# Altium schematic symbol library ISSI SRAM ASynchronous SRAM High Speed Low Power.SchLib: 413 symbols (part 1 of 21)
Pins are listed as number, name and electrical type; pins without a type are passive.

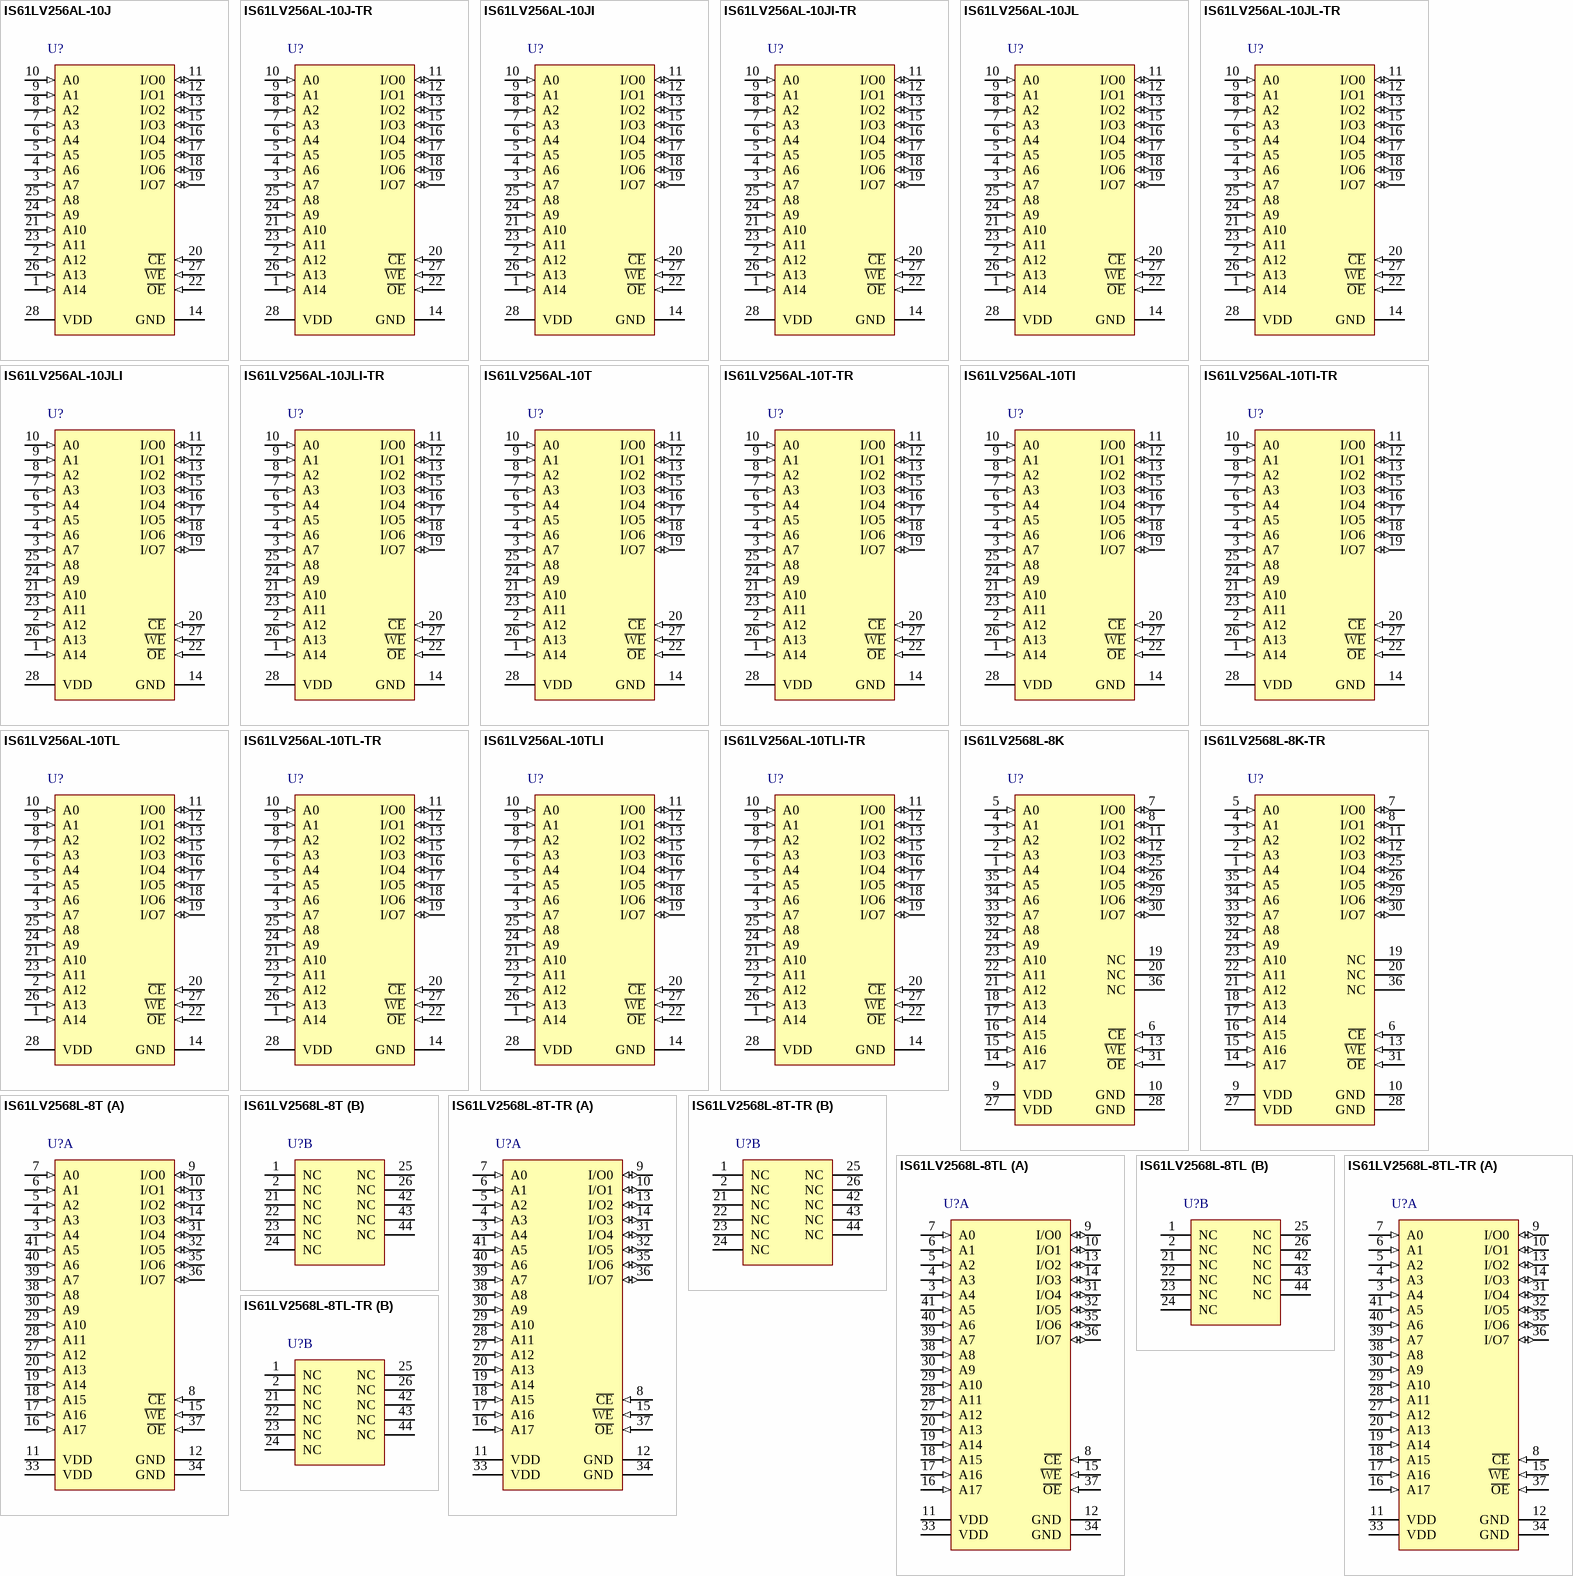
[diagram p0: symbols IS61LV256AL-10J to IS61LV2568L-8TL-TR]

## IS61LV256AL-10J
designator U?
256 K Low Voltage CMOS SRAM, 32 K x 8, 0 to 70 degC, 28-Pin SOJ (SOJ-28); Manufacturer: Integrated Silicon Solution Inc (ISSI); PartNumber: IS61LV256AL-10J; Density: 256K; Organization: 32K x 8; Packing: Tray / Tube; Speed (ns): 10; DatasheetVersion: Rev. C; PackageVersion: Rev. C, 07/2006; PackageReference: SOJ-28; PackageDescription: 28-Pin 300 mil SOJ, Body 18.12 x 7.585 mm, Pitch 1.27 mm; Mounting Technology: Surface Mount; ComponentLink1Description: Manufacturer URL; ComponentLink1URL: http://www.issi.com/US/index.shtml; ComponentLink2Description: Datasheet; ComponentLink2URL: http://www.issi.com/WW/pdf/61LV256AL.pdf; ComponentLink3Description: Package Specification; ComponentLink3URL: http://www.issi.com/WW/pdf/61C256AL.pdf
footprint ISSI-SOJ-28_A_N (SOJ, 28-Leads, Body 18.54x7.75mm, Pitch 1.27mm, IPC Medium Density)
pins: 1 A14 (in) "Address Inputs", 2 A12 (in) "Address Inputs", 3 A7 (in) "Address Inputs", 4 A6 (in) "Address Inputs", 5 A5 (in) "Address Inputs", 6 A4 (in) "Address Inputs", 7 A3 (in) "Address Inputs", 8 A2 (in) "Address Inputs", 9 A1 (in) "Address Inputs", 10 A0 (in) "Address Inputs", 11 I/O0 (io) "Input/Output", 12 I/O1 (io) "Input/Output", 13 I/O2 (io) "Input/Output", 14 GND (power) "Ground", 15 I/O3 (io) "Input/Output", 16 I/O4 (io) "Input/Output", 17 I/O5 (io) "Input/Output", 18 I/O6 (io) "Input/Output", 19 I/O7 (io) "Input/Output", 20 ~{CE} (in) "Chip Enable Input", 21 A10 (in) "Address Inputs", 22 ~{OE} (in) "Output Enable Input", 23 A11 (in) "Address Inputs", 24 A9 (in) "Address Inputs", 25 A8 (in) "Address Inputs", 26 A13 (in) "Address Inputs", 27 ~{WE} (in) "Write Enable Input", 28 VDD (power) "Power"

## IS61LV256AL-10J-TR
designator U?
256 K Low Voltage CMOS SRAM, 32 K x 8, 0 to 70 degC, 28-Pin SOJ (SOJ-28_A); Manufacturer: Integrated Silicon Solution Inc (ISSI); PartNumber: IS61LV256AL-10J-TR; Density: 256K; Organization: 32K x 8; Packing: Tape & Reel; Speed (ns): 10; DatasheetVersion: Rev. C; PackageVersion: Rev. C, 07/2006; PackageReference: SOJ-28; PackageDescription: 28-Pin 300 mil SOJ, Body 18.12 x 7.585 mm, Pitch 1.27 mm; Mounting Technology: Surface Mount; ComponentLink1Description: Manufacturer URL; ComponentLink1URL: http://www.issi.com/US/index.shtml; ComponentLink2Description: Datasheet; ComponentLink2URL: http://www.issi.com/WW/pdf/61LV256AL.pdf; ComponentLink3Description: Package Specification; ComponentLink3URL: http://www.issi.com/WW/pdf/61C256AL.pdf
footprint ISSI-SOJ-28_A_N (SOJ, 28-Leads, Body 18.54x7.75mm, Pitch 1.27mm, IPC Medium Density)
pins: 1 A14 (in) "Address Inputs", 2 A12 (in) "Address Inputs", 3 A7 (in) "Address Inputs", 4 A6 (in) "Address Inputs", 5 A5 (in) "Address Inputs", 6 A4 (in) "Address Inputs", 7 A3 (in) "Address Inputs", 8 A2 (in) "Address Inputs", 9 A1 (in) "Address Inputs", 10 A0 (in) "Address Inputs", 11 I/O0 (io) "Input/Output", 12 I/O1 (io) "Input/Output", 13 I/O2 (io) "Input/Output", 14 GND (power) "Ground", 15 I/O3 (io) "Input/Output", 16 I/O4 (io) "Input/Output", 17 I/O5 (io) "Input/Output", 18 I/O6 (io) "Input/Output", 19 I/O7 (io) "Input/Output", 20 ~{CE} (in) "Chip Enable Input", 21 A10 (in) "Address Inputs", 22 ~{OE} (in) "Output Enable Input", 23 A11 (in) "Address Inputs", 24 A9 (in) "Address Inputs", 25 A8 (in) "Address Inputs", 26 A13 (in) "Address Inputs", 27 ~{WE} (in) "Write Enable Input", 28 VDD (power) "Power"

## IS61LV256AL-10JI
designator U?
256 K Low Voltage CMOS SRAM, 32 K x 8, -40 to 85 degC, 28-Pin SOJ (SOJ-28); Manufacturer: Integrated Silicon Solution Inc (ISSI); PartNumber: IS61LV256AL-10JI; Density: 256K; Organization: 32K x 8; Packing: Tray / Tube; Speed (ns): 10; DatasheetVersion: Rev. C; PackageVersion: Rev. C, 07/2006; PackageReference: SOJ-28; PackageDescription: 28-Pin 300 mil SOJ, Body 18.12 x 7.585 mm, Pitch 1.27 mm; Mounting Technology: Surface Mount; ComponentLink1Description: Manufacturer URL; ComponentLink1URL: http://www.issi.com/US/index.shtml; ComponentLink2Description: Datasheet; ComponentLink2URL: http://www.issi.com/WW/pdf/61LV256AL.pdf; ComponentLink3Description: Package Specification; ComponentLink3URL: http://www.issi.com/WW/pdf/61C256AL.pdf
footprint ISSI-SOJ-28_A_N (SOJ, 28-Leads, Body 18.54x7.75mm, Pitch 1.27mm, IPC Medium Density)
pins: 1 A14 (in) "Address Inputs", 2 A12 (in) "Address Inputs", 3 A7 (in) "Address Inputs", 4 A6 (in) "Address Inputs", 5 A5 (in) "Address Inputs", 6 A4 (in) "Address Inputs", 7 A3 (in) "Address Inputs", 8 A2 (in) "Address Inputs", 9 A1 (in) "Address Inputs", 10 A0 (in) "Address Inputs", 11 I/O0 (io) "Input/Output", 12 I/O1 (io) "Input/Output", 13 I/O2 (io) "Input/Output", 14 GND (power) "Ground", 15 I/O3 (io) "Input/Output", 16 I/O4 (io) "Input/Output", 17 I/O5 (io) "Input/Output", 18 I/O6 (io) "Input/Output", 19 I/O7 (io) "Input/Output", 20 ~{CE} (in) "Chip Enable Input", 21 A10 (in) "Address Inputs", 22 ~{OE} (in) "Output Enable Input", 23 A11 (in) "Address Inputs", 24 A9 (in) "Address Inputs", 25 A8 (in) "Address Inputs", 26 A13 (in) "Address Inputs", 27 ~{WE} (in) "Write Enable Input", 28 VDD (power) "Power"

## IS61LV256AL-10JI-TR
designator U?
256 K Low Voltage CMOS SRAM, 32 K x 8, -40 to 85 degC, 28-Pin SOJ (SOJ-28_A); Manufacturer: Integrated Silicon Solution Inc (ISSI); PartNumber: IS61LV256AL-10JI-TR; Density: 256K; Organization: 32K x 8; Packing: Tape & Reel; Speed (ns): 10; DatasheetVersion: Rev. C; PackageVersion: Rev. C, 07/2006; PackageReference: SOJ-28; PackageDescription: 28-Pin 300 mil SOJ, Body 18.12 x 7.585 mm, Pitch 1.27 mm; Mounting Technology: Surface Mount; ComponentLink1Description: Manufacturer URL; ComponentLink1URL: http://www.issi.com/US/index.shtml; ComponentLink2Description: Datasheet; ComponentLink2URL: http://www.issi.com/WW/pdf/61LV256AL.pdf; ComponentLink3Description: Package Specification; ComponentLink3URL: http://www.issi.com/WW/pdf/61C256AL.pdf
footprint ISSI-SOJ-28_A_N (SOJ, 28-Leads, Body 18.54x7.75mm, Pitch 1.27mm, IPC Medium Density)
pins: 1 A14 (in) "Address Inputs", 2 A12 (in) "Address Inputs", 3 A7 (in) "Address Inputs", 4 A6 (in) "Address Inputs", 5 A5 (in) "Address Inputs", 6 A4 (in) "Address Inputs", 7 A3 (in) "Address Inputs", 8 A2 (in) "Address Inputs", 9 A1 (in) "Address Inputs", 10 A0 (in) "Address Inputs", 11 I/O0 (io) "Input/Output", 12 I/O1 (io) "Input/Output", 13 I/O2 (io) "Input/Output", 14 GND (power) "Ground", 15 I/O3 (io) "Input/Output", 16 I/O4 (io) "Input/Output", 17 I/O5 (io) "Input/Output", 18 I/O6 (io) "Input/Output", 19 I/O7 (io) "Input/Output", 20 ~{CE} (in) "Chip Enable Input", 21 A10 (in) "Address Inputs", 22 ~{OE} (in) "Output Enable Input", 23 A11 (in) "Address Inputs", 24 A9 (in) "Address Inputs", 25 A8 (in) "Address Inputs", 26 A13 (in) "Address Inputs", 27 ~{WE} (in) "Write Enable Input", 28 VDD (power) "Power"

## IS61LV256AL-10JL
designator U?
256 K Low Voltage CMOS SRAM, 32 K x 8, 0 to 70 degC, 28-Pin SOJ (SOJ-28), Pb-Free; Manufacturer: Integrated Silicon Solution Inc (ISSI); PartNumber: IS61LV256AL-10JL; Density: 256K; Organization: 32K x 8; Packing: Tray / Tube; Speed (ns): 10; DatasheetVersion: Rev. C; PackageVersion: Rev. C, 07/2006; PackageReference: SOJ-28; PackageDescription: 28-Pin 300 mil SOJ, Body 18.12 x 7.585 mm, Pitch 1.27 mm; RoHS: Pb-Free; Mounting Technology: Surface Mount; ComponentLink1Description: Manufacturer URL; ComponentLink1URL: http://www.issi.com/US/index.shtml; ComponentLink2Description: Datasheet; ComponentLink2URL: http://www.issi.com/WW/pdf/61LV256AL.pdf; ComponentLink3Description: Package Specification; ComponentLink3URL: http://www.issi.com/WW/pdf/61C256AL.pdf
footprint ISSI-SOJ-28_A_N (SOJ, 28-Leads, Body 18.54x7.75mm, Pitch 1.27mm, IPC Medium Density)
pins: 1 A14 (in) "Address Inputs", 2 A12 (in) "Address Inputs", 3 A7 (in) "Address Inputs", 4 A6 (in) "Address Inputs", 5 A5 (in) "Address Inputs", 6 A4 (in) "Address Inputs", 7 A3 (in) "Address Inputs", 8 A2 (in) "Address Inputs", 9 A1 (in) "Address Inputs", 10 A0 (in) "Address Inputs", 11 I/O0 (io) "Input/Output", 12 I/O1 (io) "Input/Output", 13 I/O2 (io) "Input/Output", 14 GND (power) "Ground", 15 I/O3 (io) "Input/Output", 16 I/O4 (io) "Input/Output", 17 I/O5 (io) "Input/Output", 18 I/O6 (io) "Input/Output", 19 I/O7 (io) "Input/Output", 20 ~{CE} (in) "Chip Enable Input", 21 A10 (in) "Address Inputs", 22 ~{OE} (in) "Output Enable Input", 23 A11 (in) "Address Inputs", 24 A9 (in) "Address Inputs", 25 A8 (in) "Address Inputs", 26 A13 (in) "Address Inputs", 27 ~{WE} (in) "Write Enable Input", 28 VDD (power) "Power"

## IS61LV256AL-10JL-TR
designator U?
256 K Low Voltage CMOS SRAM, 32 K x 8, 0 to 70 degC, 28-Pin SOJ (SOJ-28_A), Pb-Free; Manufacturer: Integrated Silicon Solution Inc (ISSI); PartNumber: IS61LV256AL-10JL-TR; Density: 256K; Organization: 32K x 8; Packing: Tape & Reel; Speed (ns): 10; DatasheetVersion: Rev. C; PackageVersion: Rev. C, 07/2006; PackageReference: SOJ-28; PackageDescription: 28-Pin 300 mil SOJ, Body 18.12 x 7.585 mm, Pitch 1.27 mm; RoHS: Pb-Free; Mounting Technology: Surface Mount; ComponentLink1Description: Manufacturer URL; ComponentLink1URL: http://www.issi.com/US/index.shtml; ComponentLink2Description: Datasheet; ComponentLink2URL: http://www.issi.com/WW/pdf/61LV256AL.pdf; ComponentLink3Description: Package Specification; ComponentLink3URL: http://www.issi.com/WW/pdf/61C256AL.pdf
footprint ISSI-SOJ-28_A_N (SOJ, 28-Leads, Body 18.54x7.75mm, Pitch 1.27mm, IPC Medium Density)
pins: 1 A14 (in) "Address Inputs", 2 A12 (in) "Address Inputs", 3 A7 (in) "Address Inputs", 4 A6 (in) "Address Inputs", 5 A5 (in) "Address Inputs", 6 A4 (in) "Address Inputs", 7 A3 (in) "Address Inputs", 8 A2 (in) "Address Inputs", 9 A1 (in) "Address Inputs", 10 A0 (in) "Address Inputs", 11 I/O0 (io) "Input/Output", 12 I/O1 (io) "Input/Output", 13 I/O2 (io) "Input/Output", 14 GND (power) "Ground", 15 I/O3 (io) "Input/Output", 16 I/O4 (io) "Input/Output", 17 I/O5 (io) "Input/Output", 18 I/O6 (io) "Input/Output", 19 I/O7 (io) "Input/Output", 20 ~{CE} (in) "Chip Enable Input", 21 A10 (in) "Address Inputs", 22 ~{OE} (in) "Output Enable Input", 23 A11 (in) "Address Inputs", 24 A9 (in) "Address Inputs", 25 A8 (in) "Address Inputs", 26 A13 (in) "Address Inputs", 27 ~{WE} (in) "Write Enable Input", 28 VDD (power) "Power"

## IS61LV256AL-10JLI
designator U?
256 K Low Voltage CMOS SRAM, 32 K x 8, -40 to 85 degC, 28-Pin SOJ (SOJ-28), Pb-Free; Manufacturer: Integrated Silicon Solution Inc (ISSI); PartNumber: IS61LV256AL-10JLI; Density: 256K; Organization: 32K x 8; Packing: Tray / Tube; Speed (ns): 10; DatasheetVersion: Rev. C; PackageVersion: Rev. C, 07/2006; PackageReference: SOJ-28; PackageDescription: 28-Pin 300 mil SOJ, Body 18.12 x 7.585 mm, Pitch 1.27 mm; Supplier 1: Digi-Key; Supplier Part Number 1: 706-1036-ND; Supplier 2: Newark; Supplier Part Number 2: 43M5205; Supplier 3: Mouser; Supplier Part Number 3: 870-IS61LV256AL10JLI; RoHS: Pb-Free; Mounting Technology: Surface Mount; ComponentLink1Description: Manufacturer URL; ComponentLink1URL: http://www.issi.com/US/index.shtml; ComponentLink2Description: Datasheet; ComponentLink2URL: http://www.issi.com/WW/pdf/61LV256AL.pdf; ComponentLink3Description: Package Specification; ComponentLink3URL: http://www.issi.com/WW/pdf/61C256AL.pdf
footprint ISSI-SOJ-28_A_N (SOJ, 28-Leads, Body 18.54x7.75mm, Pitch 1.27mm, IPC Medium Density)
pins: 1 A14 (in) "Address Inputs", 2 A12 (in) "Address Inputs", 3 A7 (in) "Address Inputs", 4 A6 (in) "Address Inputs", 5 A5 (in) "Address Inputs", 6 A4 (in) "Address Inputs", 7 A3 (in) "Address Inputs", 8 A2 (in) "Address Inputs", 9 A1 (in) "Address Inputs", 10 A0 (in) "Address Inputs", 11 I/O0 (io) "Input/Output", 12 I/O1 (io) "Input/Output", 13 I/O2 (io) "Input/Output", 14 GND (power) "Ground", 15 I/O3 (io) "Input/Output", 16 I/O4 (io) "Input/Output", 17 I/O5 (io) "Input/Output", 18 I/O6 (io) "Input/Output", 19 I/O7 (io) "Input/Output", 20 ~{CE} (in) "Chip Enable Input", 21 A10 (in) "Address Inputs", 22 ~{OE} (in) "Output Enable Input", 23 A11 (in) "Address Inputs", 24 A9 (in) "Address Inputs", 25 A8 (in) "Address Inputs", 26 A13 (in) "Address Inputs", 27 ~{WE} (in) "Write Enable Input", 28 VDD (power) "Power"

## IS61LV256AL-10JLI-TR
designator U?
256 K Low Voltage CMOS SRAM, 32 K x 8, -40 to 85 degC, 28-Pin SOJ (SOJ-28_A), Pb-Free; Manufacturer: Integrated Silicon Solution Inc (ISSI); PartNumber: IS61LV256AL-10JLI-TR; Density: 256K; Organization: 32K x 8; Packing: Tape & Reel; Speed (ns): 10; DatasheetVersion: Rev. C; PackageVersion: Rev. C, 07/2006; PackageReference: SOJ-28; PackageDescription: 28-Pin 300 mil SOJ, Body 18.12 x 7.585 mm, Pitch 1.27 mm; Supplier 1: Digi-Key; Supplier Part Number 1: IS61LV256AL-10JLI-TR-ND; Supplier 2: Mouser; Supplier Part Number 2: 870-61LV256AL10JLITR; RoHS: Pb-Free; Mounting Technology: Surface Mount; ComponentLink1Description: Manufacturer URL; ComponentLink1URL: http://www.issi.com/US/index.shtml; ComponentLink2Description: Datasheet; ComponentLink2URL: http://www.issi.com/WW/pdf/61LV256AL.pdf; ComponentLink3Description: Package Specification; ComponentLink3URL: http://www.issi.com/WW/pdf/61C256AL.pdf
footprint ISSI-SOJ-28_A_N (SOJ, 28-Leads, Body 18.54x7.75mm, Pitch 1.27mm, IPC Medium Density)
pins: 1 A14 (in) "Address Inputs", 2 A12 (in) "Address Inputs", 3 A7 (in) "Address Inputs", 4 A6 (in) "Address Inputs", 5 A5 (in) "Address Inputs", 6 A4 (in) "Address Inputs", 7 A3 (in) "Address Inputs", 8 A2 (in) "Address Inputs", 9 A1 (in) "Address Inputs", 10 A0 (in) "Address Inputs", 11 I/O0 (io) "Input/Output", 12 I/O1 (io) "Input/Output", 13 I/O2 (io) "Input/Output", 14 GND (power) "Ground", 15 I/O3 (io) "Input/Output", 16 I/O4 (io) "Input/Output", 17 I/O5 (io) "Input/Output", 18 I/O6 (io) "Input/Output", 19 I/O7 (io) "Input/Output", 20 ~{CE} (in) "Chip Enable Input", 21 A10 (in) "Address Inputs", 22 ~{OE} (in) "Output Enable Input", 23 A11 (in) "Address Inputs", 24 A9 (in) "Address Inputs", 25 A8 (in) "Address Inputs", 26 A13 (in) "Address Inputs", 27 ~{WE} (in) "Write Enable Input", 28 VDD (power) "Power"

## IS61LV256AL-10T
designator U?
256 K Low Voltage CMOS SRAM, 32 K x 8, 0 to 70 degC, 28-Pin SOP (TSOP-1-28); Manufacturer: Integrated Silicon Solution Inc (ISSI); PartNumber: IS61LV256AL-10T; Density: 256K; Organization: 32K x 8; Packing: Tray / Tube; Speed (ns): 10; DatasheetVersion: Rev. C; PackageVersion: Rev. F, 09/2009; PackageReference: TSOP-1-28; PackageDescription: 28-Pin 8 x 13.4 mm TSOP-1, Pitch 0.55 mm; Mounting Technology: Surface Mount; Code_JEDEC: MO- 183; ComponentLink1Description: Manufacturer URL; ComponentLink1URL: http://www.issi.com/US/index.shtml; ComponentLink2Description: Datasheet; ComponentLink2URL: http://www.issi.com/WW/pdf/61LV256AL.pdf; ComponentLink3Description: Package Specification; ComponentLink3URL: http://www.issi.com/WW/pdf/62-65C256AL.pdf
footprint ISSI-TSOP-1-28-8000X13400DE_N (SOP, 28-Leads, Body 11.9x8.1mm, Pitch 0.55mm, IPC Medium Density)
pins: 1 A14 (in) "Address Input", 2 A12 (in) "Address Input", 3 A7 (in) "Address Input", 4 A6 (in) "Address Input", 5 A5 (in) "Address Input", 6 A4 (in) "Address Input", 7 A3 (in) "Address Input", 8 A2 (in) "Address Input", 9 A1 (in) "Address Input", 10 A0 (in) "Address Input", 11 I/O0 (io) "Input/Output", 12 I/O1 (io) "Input/Output", 13 I/O2 (io) "Input/Output", 14 GND (power) "Ground", 15 I/O3 (io) "Input/Output", 16 I/O4 (io) "Input/Output", 17 I/O5 (io) "Input/Output", 18 I/O6 (io) "Input/Output", 19 I/O7 (io) "Input/Output", 20 ~{CE} (in) "Chip Enable Input", 21 A10 (in) "Address Input", 22 ~{OE} (in) "Output Enable Input", 23 A11 (in) "Address Input", 24 A9 (in) "Address Input", 25 A8 (in) "Address Input", 26 A13 (in) "Address Input", 27 ~{WE} (in) "Write Enable Input", 28 VDD (power) "Power"

## IS61LV256AL-10T-TR
designator U?
256 K Low Voltage CMOS SRAM, 32 K x 8, 0 to 70 degC, 28-Pin SOP (TSOP-1-28); Manufacturer: Integrated Silicon Solution Inc (ISSI); PartNumber: IS61LV256AL-10T-TR; Density: 256K; Organization: 32K x 8; Packing: Tape & Reel; Speed (ns): 10; DatasheetVersion: Rev. C; PackageVersion: Rev. F, 09/2009; PackageReference: TSOP-1-28; PackageDescription: 28-Pin 8 x 13.4 mm TSOP-1, Pitch 0.55 mm; Mounting Technology: Surface Mount; Code_JEDEC: MO- 183; ComponentLink1Description: Manufacturer URL; ComponentLink1URL: http://www.issi.com/US/index.shtml; ComponentLink2Description: Datasheet; ComponentLink2URL: http://www.issi.com/WW/pdf/61LV256AL.pdf; ComponentLink3Description: Package Specification; ComponentLink3URL: http://www.issi.com/WW/pdf/62-65C256AL.pdf
footprint ISSI-TSOP-1-28-8000X13400DE_N (SOP, 28-Leads, Body 11.9x8.1mm, Pitch 0.55mm, IPC Medium Density)
pins: 1 A14 (in) "Address Input", 2 A12 (in) "Address Input", 3 A7 (in) "Address Input", 4 A6 (in) "Address Input", 5 A5 (in) "Address Input", 6 A4 (in) "Address Input", 7 A3 (in) "Address Input", 8 A2 (in) "Address Input", 9 A1 (in) "Address Input", 10 A0 (in) "Address Input", 11 I/O0 (io) "Input/Output", 12 I/O1 (io) "Input/Output", 13 I/O2 (io) "Input/Output", 14 GND (power) "Ground", 15 I/O3 (io) "Input/Output", 16 I/O4 (io) "Input/Output", 17 I/O5 (io) "Input/Output", 18 I/O6 (io) "Input/Output", 19 I/O7 (io) "Input/Output", 20 ~{CE} (in) "Chip Enable Input", 21 A10 (in) "Address Input", 22 ~{OE} (in) "Output Enable Input", 23 A11 (in) "Address Input", 24 A9 (in) "Address Input", 25 A8 (in) "Address Input", 26 A13 (in) "Address Input", 27 ~{WE} (in) "Write Enable Input", 28 VDD (power) "Power"

## IS61LV256AL-10TI
designator U?
256 K Low Voltage CMOS SRAM, 32 K x 8, -40 to 85 degC, 28-Pin SOP (TSOP-1-28); Manufacturer: Integrated Silicon Solution Inc (ISSI); PartNumber: IS61LV256AL-10TI; Density: 256K; Organization: 32K x 8; Packing: Tray / Tube; Speed (ns): 10; DatasheetVersion: Rev. C; PackageVersion: Rev. F, 09/2009; PackageReference: TSOP-1-28; PackageDescription: 28-Pin 8 x 13.4 mm TSOP-1, Pitch 0.55 mm; Mounting Technology: Surface Mount; Code_JEDEC: MO- 183; ComponentLink1Description: Manufacturer URL; ComponentLink1URL: http://www.issi.com/US/index.shtml; ComponentLink2Description: Datasheet; ComponentLink2URL: http://www.issi.com/WW/pdf/61LV256AL.pdf; ComponentLink3Description: Package Specification; ComponentLink3URL: http://www.issi.com/WW/pdf/62-65C256AL.pdf
footprint ISSI-TSOP-1-28-8000X13400DE_N (SOP, 28-Leads, Body 11.9x8.1mm, Pitch 0.55mm, IPC Medium Density)
pins: 1 A14 (in) "Address Input", 2 A12 (in) "Address Input", 3 A7 (in) "Address Input", 4 A6 (in) "Address Input", 5 A5 (in) "Address Input", 6 A4 (in) "Address Input", 7 A3 (in) "Address Input", 8 A2 (in) "Address Input", 9 A1 (in) "Address Input", 10 A0 (in) "Address Input", 11 I/O0 (io) "Input/Output", 12 I/O1 (io) "Input/Output", 13 I/O2 (io) "Input/Output", 14 GND (power) "Ground", 15 I/O3 (io) "Input/Output", 16 I/O4 (io) "Input/Output", 17 I/O5 (io) "Input/Output", 18 I/O6 (io) "Input/Output", 19 I/O7 (io) "Input/Output", 20 ~{CE} (in) "Chip Enable Input", 21 A10 (in) "Address Input", 22 ~{OE} (in) "Output Enable Input", 23 A11 (in) "Address Input", 24 A9 (in) "Address Input", 25 A8 (in) "Address Input", 26 A13 (in) "Address Input", 27 ~{WE} (in) "Write Enable Input", 28 VDD (power) "Power"

## IS61LV256AL-10TI-TR
designator U?
256 K Low Voltage CMOS SRAM, 32 K x 8, -40 to 85 degC, 28-Pin SOP (TSOP-1-28); Manufacturer: Integrated Silicon Solution Inc (ISSI); PartNumber: IS61LV256AL-10TI-TR; Density: 256K; Organization: 32K x 8; Packing: Tape & Reel; Speed (ns): 10; DatasheetVersion: Rev. C; PackageVersion: Rev. F, 09/2009; PackageReference: TSOP-1-28; PackageDescription: 28-Pin 8 x 13.4 mm TSOP-1, Pitch 0.55 mm; Mounting Technology: Surface Mount; Code_JEDEC: MO- 183; ComponentLink1Description: Manufacturer URL; ComponentLink1URL: http://www.issi.com/US/index.shtml; ComponentLink2Description: Datasheet; ComponentLink2URL: http://www.issi.com/WW/pdf/61LV256AL.pdf; ComponentLink3Description: Package Specification; ComponentLink3URL: http://www.issi.com/WW/pdf/62-65C256AL.pdf
footprint ISSI-TSOP-1-28-8000X13400DE_N (SOP, 28-Leads, Body 11.9x8.1mm, Pitch 0.55mm, IPC Medium Density)
pins: 1 A14 (in) "Address Input", 2 A12 (in) "Address Input", 3 A7 (in) "Address Input", 4 A6 (in) "Address Input", 5 A5 (in) "Address Input", 6 A4 (in) "Address Input", 7 A3 (in) "Address Input", 8 A2 (in) "Address Input", 9 A1 (in) "Address Input", 10 A0 (in) "Address Input", 11 I/O0 (io) "Input/Output", 12 I/O1 (io) "Input/Output", 13 I/O2 (io) "Input/Output", 14 GND (power) "Ground", 15 I/O3 (io) "Input/Output", 16 I/O4 (io) "Input/Output", 17 I/O5 (io) "Input/Output", 18 I/O6 (io) "Input/Output", 19 I/O7 (io) "Input/Output", 20 ~{CE} (in) "Chip Enable Input", 21 A10 (in) "Address Input", 22 ~{OE} (in) "Output Enable Input", 23 A11 (in) "Address Input", 24 A9 (in) "Address Input", 25 A8 (in) "Address Input", 26 A13 (in) "Address Input", 27 ~{WE} (in) "Write Enable Input", 28 VDD (power) "Power"

## IS61LV256AL-10TL
designator U?
256 K Low Voltage CMOS SRAM, 32 K x 8, 0 to 70 degC, 28-Pin SOP (TSOP-1-28), Pb-Free; Manufacturer: Integrated Silicon Solution Inc (ISSI); PartNumber: IS61LV256AL-10TL; Density: 256K; Organization: 32K x 8; Packing: Tray / Tube; Speed (ns): 10; DatasheetVersion: Rev. C; PackageVersion: Rev. F, 09/2009; PackageReference: TSOP-1-28; PackageDescription: 28-Pin 8 x 13.4 mm TSOP-1, Pitch 0.55 mm; RoHS: Pb-Free; Mounting Technology: Surface Mount; Code_JEDEC: MO- 183; ComponentLink1Description: Manufacturer URL; ComponentLink1URL: http://www.issi.com/US/index.shtml; ComponentLink2Description: Datasheet; ComponentLink2URL: http://www.issi.com/WW/pdf/61LV256AL.pdf; ComponentLink3Description: Package Specification; ComponentLink3URL: http://www.issi.com/WW/pdf/62-65C256AL.pdf
footprint ISSI-TSOP-1-28-8000X13400DE_N (SOP, 28-Leads, Body 11.9x8.1mm, Pitch 0.55mm, IPC Medium Density)
pins: 1 A14 (in) "Address Input", 2 A12 (in) "Address Input", 3 A7 (in) "Address Input", 4 A6 (in) "Address Input", 5 A5 (in) "Address Input", 6 A4 (in) "Address Input", 7 A3 (in) "Address Input", 8 A2 (in) "Address Input", 9 A1 (in) "Address Input", 10 A0 (in) "Address Input", 11 I/O0 (io) "Input/Output", 12 I/O1 (io) "Input/Output", 13 I/O2 (io) "Input/Output", 14 GND (power) "Ground", 15 I/O3 (io) "Input/Output", 16 I/O4 (io) "Input/Output", 17 I/O5 (io) "Input/Output", 18 I/O6 (io) "Input/Output", 19 I/O7 (io) "Input/Output", 20 ~{CE} (in) "Chip Enable Input", 21 A10 (in) "Address Input", 22 ~{OE} (in) "Output Enable Input", 23 A11 (in) "Address Input", 24 A9 (in) "Address Input", 25 A8 (in) "Address Input", 26 A13 (in) "Address Input", 27 ~{WE} (in) "Write Enable Input", 28 VDD (power) "Power"

## IS61LV256AL-10TL-TR
designator U?
256 K Low Voltage CMOS SRAM, 32 K x 8, 0 to 70 degC, 28-Pin SOP (TSOP-1-28), Pb-Free; Manufacturer: Integrated Silicon Solution Inc (ISSI); PartNumber: IS61LV256AL-10TL-TR; Density: 256K; Organization: 32K x 8; Packing: Tape & Reel; Speed (ns): 10; DatasheetVersion: Rev. C; PackageVersion: Rev. F, 09/2009; PackageReference: TSOP-1-28; PackageDescription: 28-Pin 8 x 13.4 mm TSOP-1, Pitch 0.55 mm; RoHS: Pb-Free; Mounting Technology: Surface Mount; Code_JEDEC: MO- 183; ComponentLink1Description: Manufacturer URL; ComponentLink1URL: http://www.issi.com/US/index.shtml; ComponentLink2Description: Datasheet; ComponentLink2URL: http://www.issi.com/WW/pdf/61LV256AL.pdf; ComponentLink3Description: Package Specification; ComponentLink3URL: http://www.issi.com/WW/pdf/62-65C256AL.pdf
footprint ISSI-TSOP-1-28-8000X13400DE_N (SOP, 28-Leads, Body 11.9x8.1mm, Pitch 0.55mm, IPC Medium Density)
pins: 1 A14 (in) "Address Input", 2 A12 (in) "Address Input", 3 A7 (in) "Address Input", 4 A6 (in) "Address Input", 5 A5 (in) "Address Input", 6 A4 (in) "Address Input", 7 A3 (in) "Address Input", 8 A2 (in) "Address Input", 9 A1 (in) "Address Input", 10 A0 (in) "Address Input", 11 I/O0 (io) "Input/Output", 12 I/O1 (io) "Input/Output", 13 I/O2 (io) "Input/Output", 14 GND (power) "Ground", 15 I/O3 (io) "Input/Output", 16 I/O4 (io) "Input/Output", 17 I/O5 (io) "Input/Output", 18 I/O6 (io) "Input/Output", 19 I/O7 (io) "Input/Output", 20 ~{CE} (in) "Chip Enable Input", 21 A10 (in) "Address Input", 22 ~{OE} (in) "Output Enable Input", 23 A11 (in) "Address Input", 24 A9 (in) "Address Input", 25 A8 (in) "Address Input", 26 A13 (in) "Address Input", 27 ~{WE} (in) "Write Enable Input", 28 VDD (power) "Power"

## IS61LV256AL-10TLI
designator U?
256 K Low Voltage CMOS SRAM, 32 K x 8, -40 to 85 degC, 28-Pin SOP (TSOP-1-28), Pb-Free; Manufacturer: Integrated Silicon Solution Inc (ISSI); PartNumber: IS61LV256AL-10TLI; Density: 256K; Organization: 32K x 8; Packing: Tray / Tube; Speed (ns): 10; DatasheetVersion: Rev. C; PackageVersion: Rev. F, 09/2009; PackageReference: TSOP-1-28; PackageDescription: 28-Pin 8 x 13.4 mm TSOP-1, Pitch 0.55 mm; Supplier 1: Digi-Key; Supplier Part Number 1: 706-1037-ND; Supplier 2: Farnell; Supplier Part Number 2: 1472389; Supplier 3: Newark; Supplier Part Number 3: 43M5207; Supplier 4: Mouser; Supplier Part Number 4: 870-IS61LV256AL10TLI; RoHS: Pb-Free; Mounting Technology: Surface Mount; Code_JEDEC: MO- 183; ComponentLink1Description: Manufacturer URL; ComponentLink1URL: http://www.issi.com/US/index.shtml; ComponentLink2Description: Datasheet; ComponentLink2URL: http://www.issi.com/WW/pdf/61LV256AL.pdf; ComponentLink3Description: Package Specification; ComponentLink3URL: http://www.issi.com/WW/pdf/62-65C256AL.pdf
footprint ISSI-TSOP-1-28-8000X13400DE_N (SOP, 28-Leads, Body 11.9x8.1mm, Pitch 0.55mm, IPC Medium Density)
pins: 1 A14 (in) "Address Input", 2 A12 (in) "Address Input", 3 A7 (in) "Address Input", 4 A6 (in) "Address Input", 5 A5 (in) "Address Input", 6 A4 (in) "Address Input", 7 A3 (in) "Address Input", 8 A2 (in) "Address Input", 9 A1 (in) "Address Input", 10 A0 (in) "Address Input", 11 I/O0 (io) "Input/Output", 12 I/O1 (io) "Input/Output", 13 I/O2 (io) "Input/Output", 14 GND (power) "Ground", 15 I/O3 (io) "Input/Output", 16 I/O4 (io) "Input/Output", 17 I/O5 (io) "Input/Output", 18 I/O6 (io) "Input/Output", 19 I/O7 (io) "Input/Output", 20 ~{CE} (in) "Chip Enable Input", 21 A10 (in) "Address Input", 22 ~{OE} (in) "Output Enable Input", 23 A11 (in) "Address Input", 24 A9 (in) "Address Input", 25 A8 (in) "Address Input", 26 A13 (in) "Address Input", 27 ~{WE} (in) "Write Enable Input", 28 VDD (power) "Power"

## IS61LV256AL-10TLI-TR
designator U?
256 K Low Voltage CMOS SRAM, 32 K x 8, -40 to 85 degC, 28-Pin SOP (TSOP-1-28), Pb-Free; Manufacturer: Integrated Silicon Solution Inc (ISSI); PartNumber: IS61LV256AL-10TLI-TR; Density: 256K; Organization: 32K x 8; Packing: Tape & Reel; Speed (ns): 10; DatasheetVersion: Rev. C; PackageVersion: Rev. F, 09/2009; PackageReference: TSOP-1-28; PackageDescription: 28-Pin 8 x 13.4 mm TSOP-1, Pitch 0.55 mm; Supplier 1: Digi-Key; Supplier Part Number 1: IS61LV256AL-10TLI-TR-ND; Supplier 2: Mouser; Supplier Part Number 2: 870-61LV256AL10TLITR; RoHS: Pb-Free; Mounting Technology: Surface Mount; Code_JEDEC: MO- 183; ComponentLink1Description: Manufacturer URL; ComponentLink1URL: http://www.issi.com/US/index.shtml; ComponentLink2Description: Datasheet; ComponentLink2URL: http://www.issi.com/WW/pdf/61LV256AL.pdf; ComponentLink3Description: Package Specification; ComponentLink3URL: http://www.issi.com/WW/pdf/62-65C256AL.pdf
footprint ISSI-TSOP-1-28-8000X13400DE_N (SOP, 28-Leads, Body 11.9x8.1mm, Pitch 0.55mm, IPC Medium Density)
pins: 1 A14 (in) "Address Input", 2 A12 (in) "Address Input", 3 A7 (in) "Address Input", 4 A6 (in) "Address Input", 5 A5 (in) "Address Input", 6 A4 (in) "Address Input", 7 A3 (in) "Address Input", 8 A2 (in) "Address Input", 9 A1 (in) "Address Input", 10 A0 (in) "Address Input", 11 I/O0 (io) "Input/Output", 12 I/O1 (io) "Input/Output", 13 I/O2 (io) "Input/Output", 14 GND (power) "Ground", 15 I/O3 (io) "Input/Output", 16 I/O4 (io) "Input/Output", 17 I/O5 (io) "Input/Output", 18 I/O6 (io) "Input/Output", 19 I/O7 (io) "Input/Output", 20 ~{CE} (in) "Chip Enable Input", 21 A10 (in) "Address Input", 22 ~{OE} (in) "Output Enable Input", 23 A11 (in) "Address Input", 24 A9 (in) "Address Input", 25 A8 (in) "Address Input", 26 A13 (in) "Address Input", 27 ~{WE} (in) "Write Enable Input", 28 VDD (power) "Power"

## IS61LV2568L-8K
designator U?
2 M High Speed CMOS SRAM, 256 K x 8, 0 to 70 degC, 36-Pin SOJ (SOJ-36); Manufacturer: Integrated Silicon Solution Inc (ISSI); PartNumber: IS61LV2568L-8K; Density: 2M; Organization: 256K x 8; Packing: Tray / Tube; Speed (ns): 8; DatasheetVersion: Rev. D; PackageVersion: Rev. F, 12/2007; PackageReference: SOJ-36; PackageDescription: 36-Pin 400 mil SOJ, Body 10.16 x 23.49 mm, Pitch 1.27 mm; Supplier 1: Mouser; Supplier Part Number 1: N/A; Mounting Technology: Surface Mount; Code_JEDEC: MS-027; ComponentLink1Description: Manufacturer URL; ComponentLink1URL: http://www.issi.com/US/index.shtml; ComponentLink2Description: Datasheet; ComponentLink2URL: http://www.issi.com/WW/pdf/61LV2568L.pdf; ComponentLink3Description: Package Specification; ComponentLink3URL: http://www.issi.com/WW/pdf/61-64WV5128EDBLL.pdf
footprint ISSI-SOJ-36_N (SOJ, 36-Leads, Body 23.62x10.29mm, Pitch 1.27mm, IPC Medium Density)
pins: 1 A4 (in) "Address Input", 2 A3 (in) "Address Input", 3 A2 (in) "Address Input", 4 A1 (in) "Address Input", 5 A0 (in) "Address Input", 6 ~{CE} (in) "Chip Enable Input", 7 I/O0 (io) "Bidirectional Port", 8 I/O1 (io) "Bidirectional Port", 9 VDD (power) "Power", 10 GND (power) "Ground", 11 I/O2 (io) "Bidirectional Port", 12 I/O3 (io) "Bidirectional Port", 13 ~{WE} (in) "Write Enable Input", 14 A17 (in) "Address Input", 15 A16 (in) "Address Input", 16 A15 (in) "Address Input", 17 A14 (in) "Address Input", 18 A13 (in) "Address Input", 19 NC "No Connection", 20 NC "No Connection", 21 A12 (in) "Address Input", 22 A11 (in) "Address Input", 23 A10 (in) "Address Input", 24 A9 (in) "Address Input", 25 I/O4 (io) "Bidirectional Port", 26 I/O5 (io) "Bidirectional Port", 27 VDD (power) "Power", 28 GND (power) "Ground", 29 I/O6 (io) "Bidirectional Port", 30 I/O7 (io) "Bidirectional Port", 31 ~{OE} (in) "Output Enable Input", 32 A8 (in) "Address Input", 33 A7 (in) "Address Input", 34 A6 (in) "Address Input", 35 A5 (in) "Address Input", 36 NC "No Connection"

## IS61LV2568L-8K-TR
designator U?
2 M High Speed CMOS SRAM, 256 K x 8, 0 to 70 degC, 36-Pin SOJ (SOJ-36); Manufacturer: Integrated Silicon Solution Inc (ISSI); PartNumber: IS61LV2568L-8K-TR; Density: 2M; Organization: 256K x 8; Packing: Tape & Reel; Speed (ns): 8; DatasheetVersion: Rev. D; PackageVersion: Rev. F, 12/2007; PackageReference: SOJ-36; PackageDescription: 36-Pin 400 mil SOJ, Body 10.16 x 23.49 mm, Pitch 1.27 mm; Mounting Technology: Surface Mount; Code_JEDEC: MS-027; ComponentLink1Description: Manufacturer URL; ComponentLink1URL: http://www.issi.com/US/index.shtml; ComponentLink2Description: Datasheet; ComponentLink2URL: http://www.issi.com/WW/pdf/61LV2568L.pdf; ComponentLink3Description: Package Specification; ComponentLink3URL: http://www.issi.com/WW/pdf/61-64WV5128EDBLL.pdf
footprint ISSI-SOJ-36_N (SOJ, 36-Leads, Body 23.62x10.29mm, Pitch 1.27mm, IPC Medium Density)
pins: 1 A4 (in) "Address Input", 2 A3 (in) "Address Input", 3 A2 (in) "Address Input", 4 A1 (in) "Address Input", 5 A0 (in) "Address Input", 6 ~{CE} (in) "Chip Enable Input", 7 I/O0 (io) "Bidirectional Port", 8 I/O1 (io) "Bidirectional Port", 9 VDD (power) "Power", 10 GND (power) "Ground", 11 I/O2 (io) "Bidirectional Port", 12 I/O3 (io) "Bidirectional Port", 13 ~{WE} (in) "Write Enable Input", 14 A17 (in) "Address Input", 15 A16 (in) "Address Input", 16 A15 (in) "Address Input", 17 A14 (in) "Address Input", 18 A13 (in) "Address Input", 19 NC "No Connection", 20 NC "No Connection", 21 A12 (in) "Address Input", 22 A11 (in) "Address Input", 23 A10 (in) "Address Input", 24 A9 (in) "Address Input", 25 I/O4 (io) "Bidirectional Port", 26 I/O5 (io) "Bidirectional Port", 27 VDD (power) "Power", 28 GND (power) "Ground", 29 I/O6 (io) "Bidirectional Port", 30 I/O7 (io) "Bidirectional Port", 31 ~{OE} (in) "Output Enable Input", 32 A8 (in) "Address Input", 33 A7 (in) "Address Input", 34 A6 (in) "Address Input", 35 A5 (in) "Address Input", 36 NC "No Connection"

## IS61LV2568L-8T
designator U?
2 M High Speed CMOS SRAM, 256 K x 8, 0 to 70 degC, 44-Pin SOP (TSOP-2-44); Manufacturer: Integrated Silicon Solution Inc (ISSI); PartNumber: IS61LV2568L-8T; Density: 2M; Organization: 256K x 8; Packing: Tray / Tube; Speed (ns): 8; DatasheetVersion: Rev. D; PackageVersion: Rev. F, 06/2008; PackageReference: TSOP-2-44; PackageDescription: 44-Pin 400 mil TSOP-2, Body 18.41 x 10.16 mm, Pitch 0.8 mm; Supplier 1: Mouser; Supplier Part Number 1: N/A; Mounting Technology: Surface Mount; ComponentLink1Description: Manufacturer URL; ComponentLink1URL: http://www.issi.com/US/index.shtml; ComponentLink2Description: Datasheet; ComponentLink2URL: http://www.issi.com/WW/pdf/61LV2568L.pdf; ComponentLink3Description: Package Specification; ComponentLink3URL: http://www.issi.com/WW/pdf/61-64WV6416EEBLL.pdf
footprint ISSI-TSOP-2-44_N (SOP, 44-Leads, Body 18.5x10.3mm, Pitch 0.8mm, IPC Medium Density)
part A pins: 3 A4 (in) "Address Input", 4 A3 (in) "Address Input", 5 A2 (in) "Address Input", 6 A1 (in) "Address Input", 7 A0 (in) "Address Input", 8 ~{CE} (in) "Chip Enable Input", 9 I/O0 (io) "Bidirectional Port", 10 I/O1 (io) "Bidirectional Port", 11 VDD (power) "Power", 12 GND (power) "Ground", 13 I/O2 (io) "Bidirectional Port", 14 I/O3 (io) "Bidirectional Port", 15 ~{WE} (in) "Write Enable Input", 16 A17 (in) "Address Input", 17 A16 (in) "Address Input", 18 A15 (in) "Address Input", 19 A14 (in) "Address Input", 20 A13 (in) "Address Input", 27 A12 (in) "Address Input", 28 A11 (in) "Address Input", 29 A10 (in) "Address Input", 30 A9 (in) "Address Input", 31 I/O4 (io) "Bidirectional Port", 32 I/O5 (io) "Bidirectional Port", 33 VDD (power) "Power", 34 GND (power) "Ground", 35 I/O6 (io) "Bidirectional Port", 36 I/O7 (io) "Bidirectional Port", 37 ~{OE} (in) "Output Enable Input", 38 A8 (in) "Address Input", 39 A7 (in) "Address Input", 40 A6 (in) "Address Input", 41 A5 (in) "Address Input"
part B pins: 1 NC "No Connection", 2 NC "No Connection", 21 NC "No Connection", 22 NC "No Connection", 23 NC "No Connection", 24 NC "No Connection", 25 NC "No Connection", 26 NC "No Connection", 42 NC "No Connection", 43 NC "No Connection", 44 NC "No Connection"

## IS61LV2568L-8T-TR
designator U?
2 M High Speed CMOS SRAM, 256 K x 8, 0 to 70 degC, 44-Pin SOP (TSOP-2-44); Manufacturer: Integrated Silicon Solution Inc (ISSI); PartNumber: IS61LV2568L-8T-TR; Density: 2M; Organization: 256K x 8; Packing: Tape & Reel; Speed (ns): 8; DatasheetVersion: Rev. D; PackageVersion: Rev. F, 06/2008; PackageReference: TSOP-2-44; PackageDescription: 44-Pin 400 mil TSOP-2, Body 18.41 x 10.16 mm, Pitch 0.8 mm; Mounting Technology: Surface Mount; ComponentLink1Description: Manufacturer URL; ComponentLink1URL: http://www.issi.com/US/index.shtml; ComponentLink2Description: Datasheet; ComponentLink2URL: http://www.issi.com/WW/pdf/61LV2568L.pdf; ComponentLink3Description: Package Specification; ComponentLink3URL: http://www.issi.com/WW/pdf/61-64WV6416EEBLL.pdf
footprint ISSI-TSOP-2-44_N (SOP, 44-Leads, Body 18.5x10.3mm, Pitch 0.8mm, IPC Medium Density)
part A pins: 3 A4 (in) "Address Input", 4 A3 (in) "Address Input", 5 A2 (in) "Address Input", 6 A1 (in) "Address Input", 7 A0 (in) "Address Input", 8 ~{CE} (in) "Chip Enable Input", 9 I/O0 (io) "Bidirectional Port", 10 I/O1 (io) "Bidirectional Port", 11 VDD (power) "Power", 12 GND (power) "Ground", 13 I/O2 (io) "Bidirectional Port", 14 I/O3 (io) "Bidirectional Port", 15 ~{WE} (in) "Write Enable Input", 16 A17 (in) "Address Input", 17 A16 (in) "Address Input", 18 A15 (in) "Address Input", 19 A14 (in) "Address Input", 20 A13 (in) "Address Input", 27 A12 (in) "Address Input", 28 A11 (in) "Address Input", 29 A10 (in) "Address Input", 30 A9 (in) "Address Input", 31 I/O4 (io) "Bidirectional Port", 32 I/O5 (io) "Bidirectional Port", 33 VDD (power) "Power", 34 GND (power) "Ground", 35 I/O6 (io) "Bidirectional Port", 36 I/O7 (io) "Bidirectional Port", 37 ~{OE} (in) "Output Enable Input", 38 A8 (in) "Address Input", 39 A7 (in) "Address Input", 40 A6 (in) "Address Input", 41 A5 (in) "Address Input"
part B pins: 1 NC "No Connection", 2 NC "No Connection", 21 NC "No Connection", 22 NC "No Connection", 23 NC "No Connection", 24 NC "No Connection", 25 NC "No Connection", 26 NC "No Connection", 42 NC "No Connection", 43 NC "No Connection", 44 NC "No Connection"

## IS61LV2568L-8TL
designator U?
2 M High Speed CMOS SRAM, 256 K x 8, 0 to 70 degC, 44-Pin SOP (TSOP-2-44), Pb-Free; Manufacturer: Integrated Silicon Solution Inc (ISSI); PartNumber: IS61LV2568L-8TL; Density: 2M; Organization: 256K x 8; Packing: Tray / Tube; Speed (ns): 8; DatasheetVersion: Rev. D; PackageVersion: Rev. F, 06/2008; PackageReference: TSOP-2-44; PackageDescription: 44-Pin 400 mil TSOP-2, Body 18.41 x 10.16 mm, Pitch 0.8 mm; Supplier 1: Mouser; Supplier Part Number 1: 870-61LV2568L8TL; RoHS: Pb-Free; Mounting Technology: Surface Mount; ComponentLink1Description: Manufacturer URL; ComponentLink1URL: http://www.issi.com/US/index.shtml; ComponentLink2Description: Datasheet; ComponentLink2URL: http://www.issi.com/WW/pdf/61LV2568L.pdf; ComponentLink3Description: Package Specification; ComponentLink3URL: http://www.issi.com/WW/pdf/61-64WV6416EEBLL.pdf
footprint ISSI-TSOP-2-44_N (SOP, 44-Leads, Body 18.5x10.3mm, Pitch 0.8mm, IPC Medium Density)
part A pins: 3 A4 (in) "Address Input", 4 A3 (in) "Address Input", 5 A2 (in) "Address Input", 6 A1 (in) "Address Input", 7 A0 (in) "Address Input", 8 ~{CE} (in) "Chip Enable Input", 9 I/O0 (io) "Bidirectional Port", 10 I/O1 (io) "Bidirectional Port", 11 VDD (power) "Power", 12 GND (power) "Ground", 13 I/O2 (io) "Bidirectional Port", 14 I/O3 (io) "Bidirectional Port", 15 ~{WE} (in) "Write Enable Input", 16 A17 (in) "Address Input", 17 A16 (in) "Address Input", 18 A15 (in) "Address Input", 19 A14 (in) "Address Input", 20 A13 (in) "Address Input", 27 A12 (in) "Address Input", 28 A11 (in) "Address Input", 29 A10 (in) "Address Input", 30 A9 (in) "Address Input", 31 I/O4 (io) "Bidirectional Port", 32 I/O5 (io) "Bidirectional Port", 33 VDD (power) "Power", 34 GND (power) "Ground", 35 I/O6 (io) "Bidirectional Port", 36 I/O7 (io) "Bidirectional Port", 37 ~{OE} (in) "Output Enable Input", 38 A8 (in) "Address Input", 39 A7 (in) "Address Input", 40 A6 (in) "Address Input", 41 A5 (in) "Address Input"
part B pins: 1 NC "No Connection", 2 NC "No Connection", 21 NC "No Connection", 22 NC "No Connection", 23 NC "No Connection", 24 NC "No Connection", 25 NC "No Connection", 26 NC "No Connection", 42 NC "No Connection", 43 NC "No Connection", 44 NC "No Connection"

## IS61LV2568L-8TL-TR
designator U?
2 M High Speed CMOS SRAM, 256 K x 8, 0 to 70 degC, 44-Pin SOP (TSOP-2-44), Pb-Free; Manufacturer: Integrated Silicon Solution Inc (ISSI); PartNumber: IS61LV2568L-8TL-TR; Density: 2M; Organization: 256K x 8; Packing: Tape & Reel; Speed (ns): 8; DatasheetVersion: Rev. D; PackageVersion: Rev. F, 06/2008; PackageReference: TSOP-2-44; PackageDescription: 44-Pin 400 mil TSOP-2, Body 18.41 x 10.16 mm, Pitch 0.8 mm; Supplier 1: Mouser; Supplier Part Number 1: 870-61LV2568L8TLT; RoHS: Pb-Free; Mounting Technology: Surface Mount; ComponentLink1Description: Manufacturer URL; ComponentLink1URL: http://www.issi.com/US/index.shtml; ComponentLink2Description: Datasheet; ComponentLink2URL: http://www.issi.com/WW/pdf/61LV2568L.pdf; ComponentLink3Description: Package Specification; ComponentLink3URL: http://www.issi.com/WW/pdf/61-64WV6416EEBLL.pdf
footprint ISSI-TSOP-2-44_N (SOP, 44-Leads, Body 18.5x10.3mm, Pitch 0.8mm, IPC Medium Density)
part A pins: 3 A4 (in) "Address Input", 4 A3 (in) "Address Input", 5 A2 (in) "Address Input", 6 A1 (in) "Address Input", 7 A0 (in) "Address Input", 8 ~{CE} (in) "Chip Enable Input", 9 I/O0 (io) "Bidirectional Port", 10 I/O1 (io) "Bidirectional Port", 11 VDD (power) "Power", 12 GND (power) "Ground", 13 I/O2 (io) "Bidirectional Port", 14 I/O3 (io) "Bidirectional Port", 15 ~{WE} (in) "Write Enable Input", 16 A17 (in) "Address Input", 17 A16 (in) "Address Input", 18 A15 (in) "Address Input", 19 A14 (in) "Address Input", 20 A13 (in) "Address Input", 27 A12 (in) "Address Input", 28 A11 (in) "Address Input", 29 A10 (in) "Address Input", 30 A9 (in) "Address Input", 31 I/O4 (io) "Bidirectional Port", 32 I/O5 (io) "Bidirectional Port", 33 VDD (power) "Power", 34 GND (power) "Ground", 35 I/O6 (io) "Bidirectional Port", 36 I/O7 (io) "Bidirectional Port", 37 ~{OE} (in) "Output Enable Input", 38 A8 (in) "Address Input", 39 A7 (in) "Address Input", 40 A6 (in) "Address Input", 41 A5 (in) "Address Input"
part B pins: 1 NC "No Connection", 2 NC "No Connection", 21 NC "No Connection", 22 NC "No Connection", 23 NC "No Connection", 24 NC "No Connection", 25 NC "No Connection", 26 NC "No Connection", 42 NC "No Connection", 43 NC "No Connection", 44 NC "No Connection"

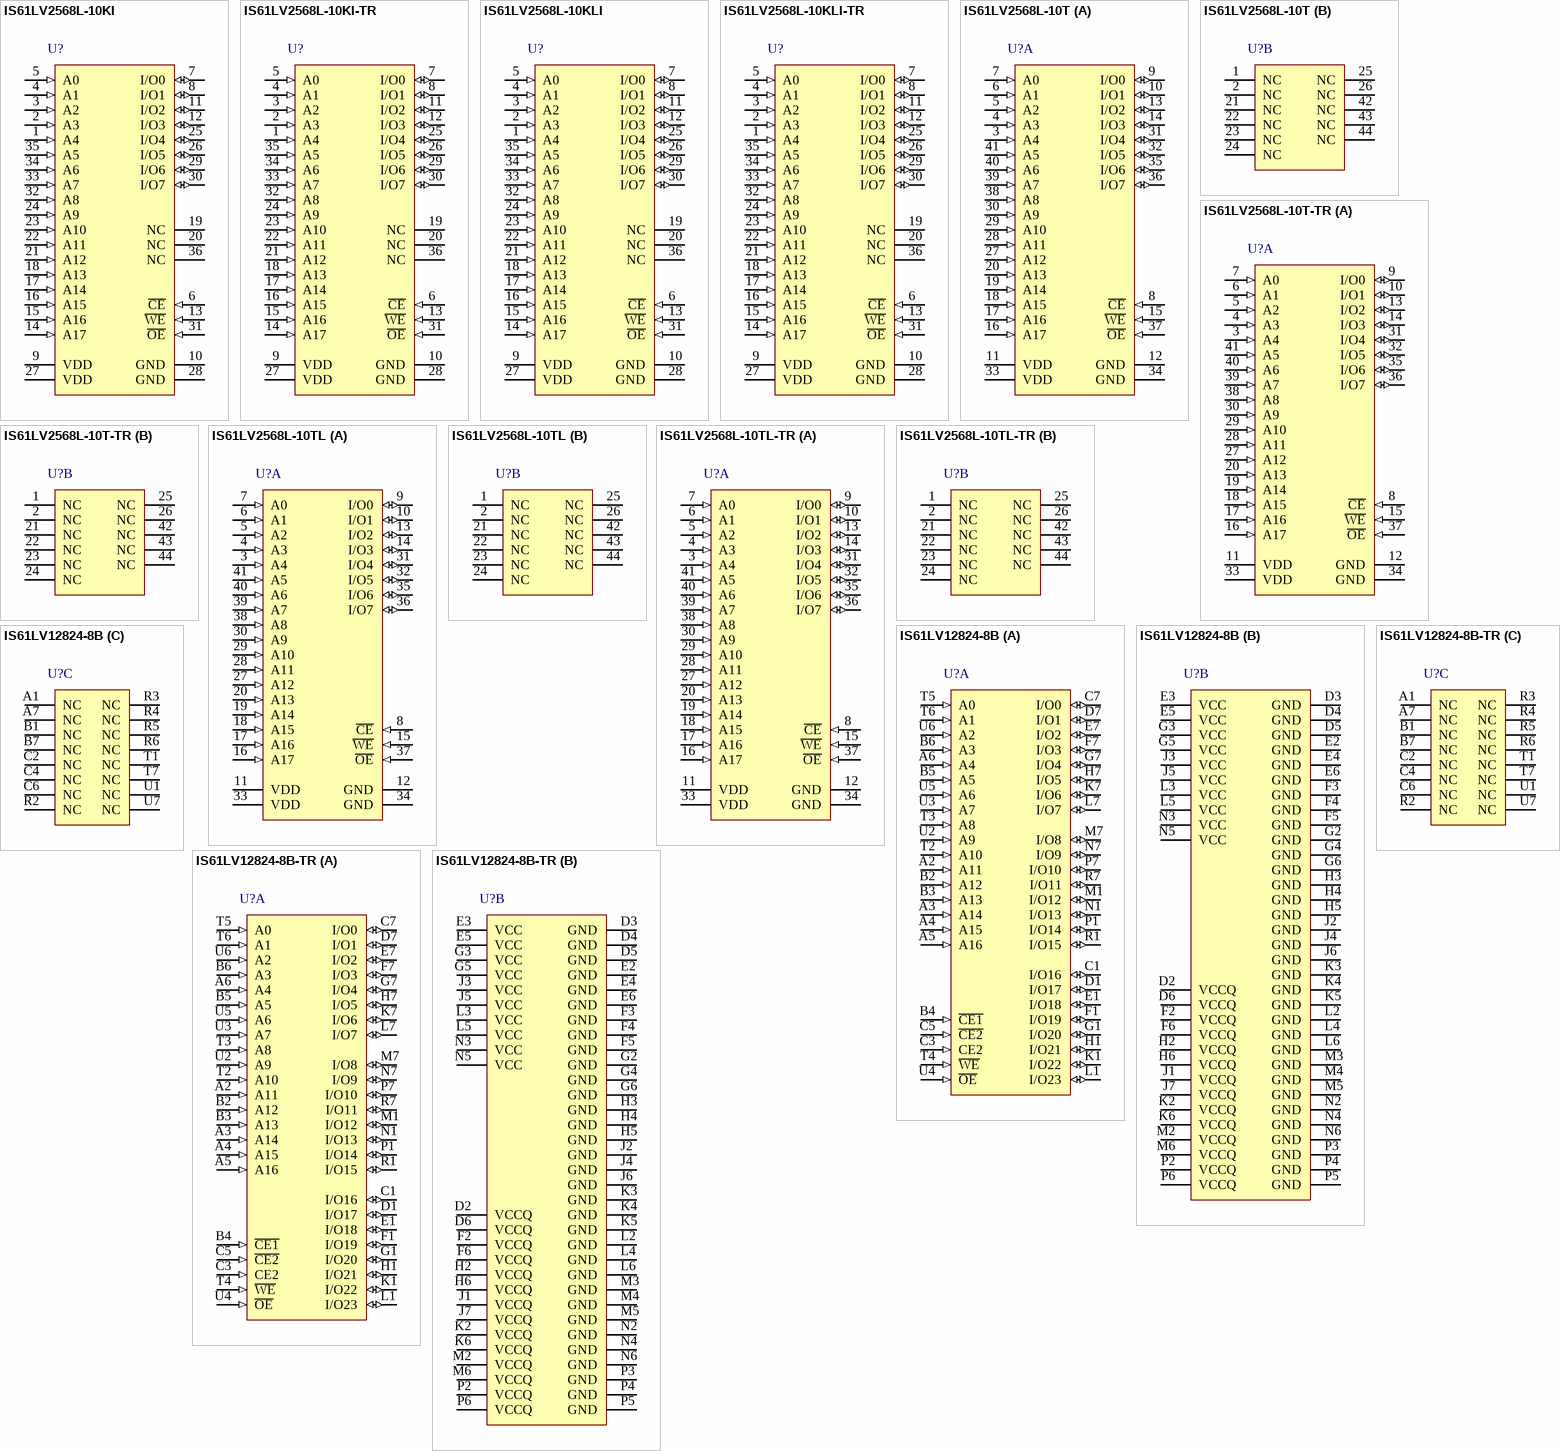
[diagram p1: symbols IS61LV2568L-10KI to IS61LV12824-8B-TR]

## IS61LV2568L-10KI
designator U?
2 M High Speed CMOS SRAM, 256 K x 8, -40 to 85 degC, 36-Pin SOJ (SOJ-36); Manufacturer: Integrated Silicon Solution Inc (ISSI); PartNumber: IS61LV2568L-10KI; Density: 2M; Organization: 256K x 8; Packing: Tray / Tube; Speed (ns): 10; DatasheetVersion: Rev. D; PackageVersion: Rev. F, 12/2007; PackageReference: SOJ-36; PackageDescription: 36-Pin 400 mil SOJ, Body 10.16 x 23.49 mm, Pitch 1.27 mm; Supplier 1: Mouser; Supplier Part Number 1: N/A; Mounting Technology: Surface Mount; Code_JEDEC: MS-027; ComponentLink1Description: Manufacturer URL; ComponentLink1URL: http://www.issi.com/US/index.shtml; ComponentLink2Description: Datasheet; ComponentLink2URL: http://www.issi.com/WW/pdf/61LV2568L.pdf; ComponentLink3Description: Package Specification; ComponentLink3URL: http://www.issi.com/WW/pdf/61-64WV5128EDBLL.pdf
footprint ISSI-SOJ-36_N (SOJ, 36-Leads, Body 23.62x10.29mm, Pitch 1.27mm, IPC Medium Density)
pins: 1 A4 (in) "Address Input", 2 A3 (in) "Address Input", 3 A2 (in) "Address Input", 4 A1 (in) "Address Input", 5 A0 (in) "Address Input", 6 ~{CE} (in) "Chip Enable Input", 7 I/O0 (io) "Bidirectional Port", 8 I/O1 (io) "Bidirectional Port", 9 VDD (power) "Power", 10 GND (power) "Ground", 11 I/O2 (io) "Bidirectional Port", 12 I/O3 (io) "Bidirectional Port", 13 ~{WE} (in) "Write Enable Input", 14 A17 (in) "Address Input", 15 A16 (in) "Address Input", 16 A15 (in) "Address Input", 17 A14 (in) "Address Input", 18 A13 (in) "Address Input", 19 NC "No Connection", 20 NC "No Connection", 21 A12 (in) "Address Input", 22 A11 (in) "Address Input", 23 A10 (in) "Address Input", 24 A9 (in) "Address Input", 25 I/O4 (io) "Bidirectional Port", 26 I/O5 (io) "Bidirectional Port", 27 VDD (power) "Power", 28 GND (power) "Ground", 29 I/O6 (io) "Bidirectional Port", 30 I/O7 (io) "Bidirectional Port", 31 ~{OE} (in) "Output Enable Input", 32 A8 (in) "Address Input", 33 A7 (in) "Address Input", 34 A6 (in) "Address Input", 35 A5 (in) "Address Input", 36 NC "No Connection"

## IS61LV2568L-10KI-TR
designator U?
2 M High Speed CMOS SRAM, 256 K x 8, -40 to 85 degC, 36-Pin SOJ (SOJ-36); Manufacturer: Integrated Silicon Solution Inc (ISSI); PartNumber: IS61LV2568L-10KI-TR; Density: 2M; Organization: 256K x 8; Packing: Tape & Reel; Speed (ns): 10; DatasheetVersion: Rev. D; PackageVersion: Rev. F, 12/2007; PackageReference: SOJ-36; PackageDescription: 36-Pin 400 mil SOJ, Body 10.16 x 23.49 mm, Pitch 1.27 mm; Supplier 1: Mouser; Supplier Part Number 1: N/A; Mounting Technology: Surface Mount; Code_JEDEC: MS-027; ComponentLink1Description: Manufacturer URL; ComponentLink1URL: http://www.issi.com/US/index.shtml; ComponentLink2Description: Datasheet; ComponentLink2URL: http://www.issi.com/WW/pdf/61LV2568L.pdf; ComponentLink3Description: Package Specification; ComponentLink3URL: http://www.issi.com/WW/pdf/61-64WV5128EDBLL.pdf
footprint ISSI-SOJ-36_N (SOJ, 36-Leads, Body 23.62x10.29mm, Pitch 1.27mm, IPC Medium Density)
pins: 1 A4 (in) "Address Input", 2 A3 (in) "Address Input", 3 A2 (in) "Address Input", 4 A1 (in) "Address Input", 5 A0 (in) "Address Input", 6 ~{CE} (in) "Chip Enable Input", 7 I/O0 (io) "Bidirectional Port", 8 I/O1 (io) "Bidirectional Port", 9 VDD (power) "Power", 10 GND (power) "Ground", 11 I/O2 (io) "Bidirectional Port", 12 I/O3 (io) "Bidirectional Port", 13 ~{WE} (in) "Write Enable Input", 14 A17 (in) "Address Input", 15 A16 (in) "Address Input", 16 A15 (in) "Address Input", 17 A14 (in) "Address Input", 18 A13 (in) "Address Input", 19 NC "No Connection", 20 NC "No Connection", 21 A12 (in) "Address Input", 22 A11 (in) "Address Input", 23 A10 (in) "Address Input", 24 A9 (in) "Address Input", 25 I/O4 (io) "Bidirectional Port", 26 I/O5 (io) "Bidirectional Port", 27 VDD (power) "Power", 28 GND (power) "Ground", 29 I/O6 (io) "Bidirectional Port", 30 I/O7 (io) "Bidirectional Port", 31 ~{OE} (in) "Output Enable Input", 32 A8 (in) "Address Input", 33 A7 (in) "Address Input", 34 A6 (in) "Address Input", 35 A5 (in) "Address Input", 36 NC "No Connection"

## IS61LV2568L-10KLI
designator U?
2 M High Speed CMOS SRAM, 256 K x 8, -40 to 85 degC, 36-Pin SOJ (SOJ-36), Pb-Free; Manufacturer: Integrated Silicon Solution Inc (ISSI); PartNumber: IS61LV2568L-10KLI; Density: 2M; Organization: 256K x 8; Packing: Tray / Tube; Speed (ns): 10; DatasheetVersion: Rev. D; PackageVersion: Rev. F, 12/2007; PackageReference: SOJ-36; PackageDescription: 36-Pin 400 mil SOJ, Body 10.16 x 23.49 mm, Pitch 1.27 mm; Supplier 1: Digi-Key; Supplier Part Number 1: IS61LV2568L-10KLI-ND; Supplier 2: Mouser; Supplier Part Number 2: 870IS61LV2568L10KLI; RoHS: Pb-Free; Mounting Technology: Surface Mount; Code_JEDEC: MS-027; ComponentLink1Description: Manufacturer URL; ComponentLink1URL: http://www.issi.com/US/index.shtml; ComponentLink2Description: Datasheet; ComponentLink2URL: http://www.issi.com/WW/pdf/61LV2568L.pdf; ComponentLink3Description: Package Specification; ComponentLink3URL: http://www.issi.com/WW/pdf/61-64WV5128EDBLL.pdf
footprint ISSI-SOJ-36_N (SOJ, 36-Leads, Body 23.62x10.29mm, Pitch 1.27mm, IPC Medium Density)
pins: 1 A4 (in) "Address Input", 2 A3 (in) "Address Input", 3 A2 (in) "Address Input", 4 A1 (in) "Address Input", 5 A0 (in) "Address Input", 6 ~{CE} (in) "Chip Enable Input", 7 I/O0 (io) "Bidirectional Port", 8 I/O1 (io) "Bidirectional Port", 9 VDD (power) "Power", 10 GND (power) "Ground", 11 I/O2 (io) "Bidirectional Port", 12 I/O3 (io) "Bidirectional Port", 13 ~{WE} (in) "Write Enable Input", 14 A17 (in) "Address Input", 15 A16 (in) "Address Input", 16 A15 (in) "Address Input", 17 A14 (in) "Address Input", 18 A13 (in) "Address Input", 19 NC "No Connection", 20 NC "No Connection", 21 A12 (in) "Address Input", 22 A11 (in) "Address Input", 23 A10 (in) "Address Input", 24 A9 (in) "Address Input", 25 I/O4 (io) "Bidirectional Port", 26 I/O5 (io) "Bidirectional Port", 27 VDD (power) "Power", 28 GND (power) "Ground", 29 I/O6 (io) "Bidirectional Port", 30 I/O7 (io) "Bidirectional Port", 31 ~{OE} (in) "Output Enable Input", 32 A8 (in) "Address Input", 33 A7 (in) "Address Input", 34 A6 (in) "Address Input", 35 A5 (in) "Address Input", 36 NC "No Connection"

## IS61LV2568L-10KLI-TR
designator U?
2 M High Speed CMOS SRAM, 256 K x 8, -40 to 85 degC, 36-Pin SOJ (SOJ-36), Pb-Free; Manufacturer: Integrated Silicon Solution Inc (ISSI); PartNumber: IS61LV2568L-10KLI-TR; Density: 2M; Organization: 256K x 8; Packing: Tape & Reel; Speed (ns): 10; DatasheetVersion: Rev. D; PackageVersion: Rev. F, 12/2007; PackageReference: SOJ-36; PackageDescription: 36-Pin 400 mil SOJ, Body 10.16 x 23.49 mm, Pitch 1.27 mm; Supplier 1: Digi-Key; Supplier Part Number 1: IS61LV2568L-10KLI-TR-ND; Supplier 2: Mouser; Supplier Part Number 2: 870IS61LV2568L10KLIT; RoHS: Pb-Free; Mounting Technology: Surface Mount; Code_JEDEC: MS-027; ComponentLink1Description: Manufacturer URL; ComponentLink1URL: http://www.issi.com/US/index.shtml; ComponentLink2Description: Datasheet; ComponentLink2URL: http://www.issi.com/WW/pdf/61LV2568L.pdf; ComponentLink3Description: Package Specification; ComponentLink3URL: http://www.issi.com/WW/pdf/61-64WV5128EDBLL.pdf
footprint ISSI-SOJ-36_N (SOJ, 36-Leads, Body 23.62x10.29mm, Pitch 1.27mm, IPC Medium Density)
pins: 1 A4 (in) "Address Input", 2 A3 (in) "Address Input", 3 A2 (in) "Address Input", 4 A1 (in) "Address Input", 5 A0 (in) "Address Input", 6 ~{CE} (in) "Chip Enable Input", 7 I/O0 (io) "Bidirectional Port", 8 I/O1 (io) "Bidirectional Port", 9 VDD (power) "Power", 10 GND (power) "Ground", 11 I/O2 (io) "Bidirectional Port", 12 I/O3 (io) "Bidirectional Port", 13 ~{WE} (in) "Write Enable Input", 14 A17 (in) "Address Input", 15 A16 (in) "Address Input", 16 A15 (in) "Address Input", 17 A14 (in) "Address Input", 18 A13 (in) "Address Input", 19 NC "No Connection", 20 NC "No Connection", 21 A12 (in) "Address Input", 22 A11 (in) "Address Input", 23 A10 (in) "Address Input", 24 A9 (in) "Address Input", 25 I/O4 (io) "Bidirectional Port", 26 I/O5 (io) "Bidirectional Port", 27 VDD (power) "Power", 28 GND (power) "Ground", 29 I/O6 (io) "Bidirectional Port", 30 I/O7 (io) "Bidirectional Port", 31 ~{OE} (in) "Output Enable Input", 32 A8 (in) "Address Input", 33 A7 (in) "Address Input", 34 A6 (in) "Address Input", 35 A5 (in) "Address Input", 36 NC "No Connection"